# Altium schematic symbol library V8P8HM3.Schlib: 1 symbol
Pins are listed as number, name and electrical type; pins without a type are passive.

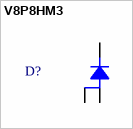
[diagram p0: symbol V8P8HM3]

## V8P8HM3
designator D?
AEC-Q101 Qualified Schottky Diode
pins: 1, 2, 3